# Altium footprint library PcbLib2.PcbLib: 3 footprints
Each footprint in its own frame and in the unit in brackets; x right, y up, seen from the top. Pads: shape width x height; smd on the part's side, far side on the other; paste and mask are expansions set on the pad; w line width, h text height; cw(c..) or ccw(c..) is an arc to the next point about the centre after c.
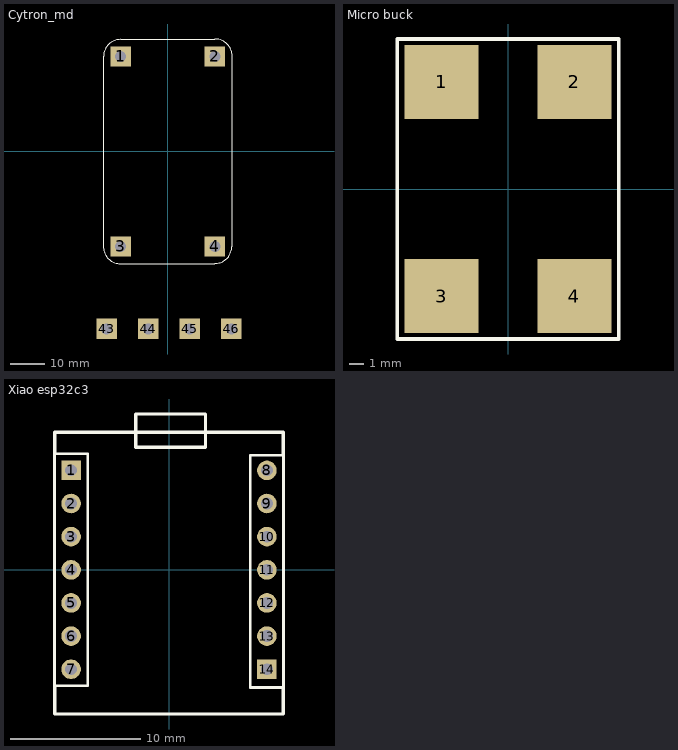
[diagram p0: the footprints below, top view; thin cyan lines are the x and y axes]

## Cytron_md [mm]
pads (8):
  rect 6x6 hole 3.22 unplated: 1(-13.85,27.9) 2(13.85,27.9) 3(-13.85,-27.9) 4(13.85,-27.9)
  rect 6x6 hole 3.22: 43(-17.907,-52.07) 44(-5.715,-52.07) 45(6.477,-52.07) 46(18.669,-52.07)
Top Overlay:
  lines w0.254: -18.923,27.94 -18.88,-27.951 ccw(c-13.853,-27.91) -13.968,-32.936 ; -18.848,27.94 cw(c-13.85,27.9) -13.843,32.898 ; -13.968,-33.02 13.843,-33.02 ; -13.843,33.02 13.843,33.02 ; 13.843,-32.88 ccw(c13.85,-27.9) 18.83,-27.94 ; 13.843,33.033 cw(c13.85,27.9) 18.983,27.814 ; 18.85,-27.94 18.85,27.813

## Micro buck [mm]
pads (4):
  rect 5x5 smd: 1(-4.5,7.25) 2(4.5,7.25) 3(-4.5,-7.25) 4(4.5,-7.25)
Top Overlay:
  lines w0.254: 7.493,10.16 -7.5,10.16 -7.5,-10.16 7.5,-10.16 7.5,10.16

## Xiao esp32c3 [mm]
pads (14):
  rect 1.5x1.5 hole 0.9: 1(-7.5,7.62) 14(7.5,-7.62)
  round 1.5 hole 0.9: 2(-7.5,5.08) 3(-7.5,2.54) 4(-7.5,0) 5(-7.5,-2.54) 6(-7.5,-5.08) 7(-7.5,-7.62) 8(7.5,7.62) 9(7.5,5.08) 10(7.5,2.54) 11(7.5,0) 12(7.5,-2.54) 13(7.5,-5.08)
Top Overlay:
  lines w0.2: -8.77,-8.89 -6.23,-8.89 -6.23,8.89 -8.77,8.89 -8.77,-8.89 ; 6.23,-9.017 8.77,-9.017 8.77,8.763 6.23,8.763 6.23,-9.017
  lines w0.254: -8.763,-8.89 -8.763,-11.049 8.763,-11.049 8.763,-9.017 ; -8.763,8.89 -8.763,10.541 8.763,10.541 8.763,8.763 ; -2.54,9.398 -2.54,11.938 2.794,11.938 2.794,9.398 -2.54,9.398